# EAGLE library part 74HC40103D,652 (library gps-to-spi)
8-bit synchronous binary down counter
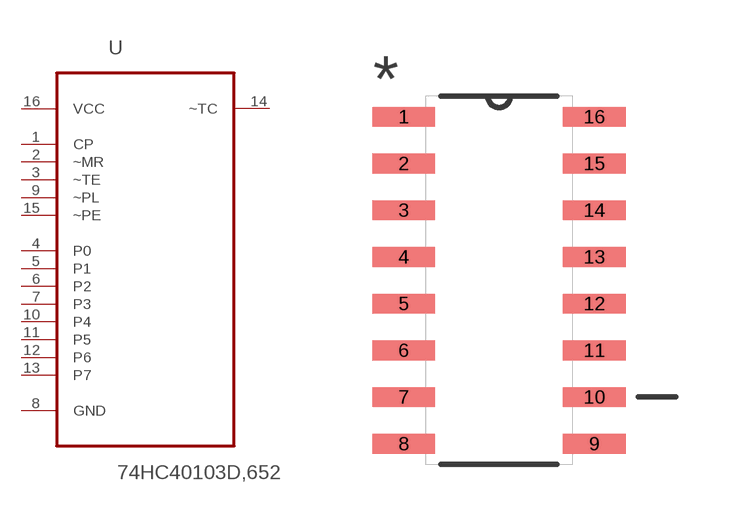
[diagram p1: symbol with the pads of SOIC127P600X175-16N; footprint SOIC127P600X175-16N]

Designator prefix U

## 74HC40103D,652 (MPN: 74HC40103D,652; OC_FARNELL: 1868601; OC_NEWARK: 71R2431; PACKAGE: SOIC-16; SUPPLIER: NXP)  [SOIC127P600X175-16N]
1  CP  in
2  ~MR  in
3  ~TE  in
4  P0  in
5  P1  in
6  P2  in
7  P3  in
8  GND  pas
9  ~PL  in
10  P4  in
11  P5  in
12  P6  in
13  P7  in
14  ~TC  out
15  ~PE  in
16  VCC  pwr

## Footprint SOIC127P600X175-16N (pad centres in mm)
smd 1.702 x 0.533: 1 -2.591,4.445; 2 -2.591,3.175; 3 -2.591,1.905; 4 -2.591,0.635; 5 -2.591,-0.635; 6 -2.591,-1.905; 7 -2.591,-3.175; 8 -2.591,-4.445; 9 2.591,-4.445; 10 2.591,-3.175; 11 2.591,-1.905; 12 2.591,-0.635; 13 2.591,0.635; 14 2.591,1.905; 15 2.591,3.175; 16 2.591,4.445